# Altium footprint library PcbLib.PcbLib: 65 footprints (part 5 of 5)
Each footprint in its own frame and in the unit in brackets; x right, y up, seen from the top. Pads: shape width x height; smd on the part's side, far side on the other; paste and mask are expansions set on the pad; w line width, h text height; cw(c..) or ccw(c..) is an arc to the next point about the centre after c.
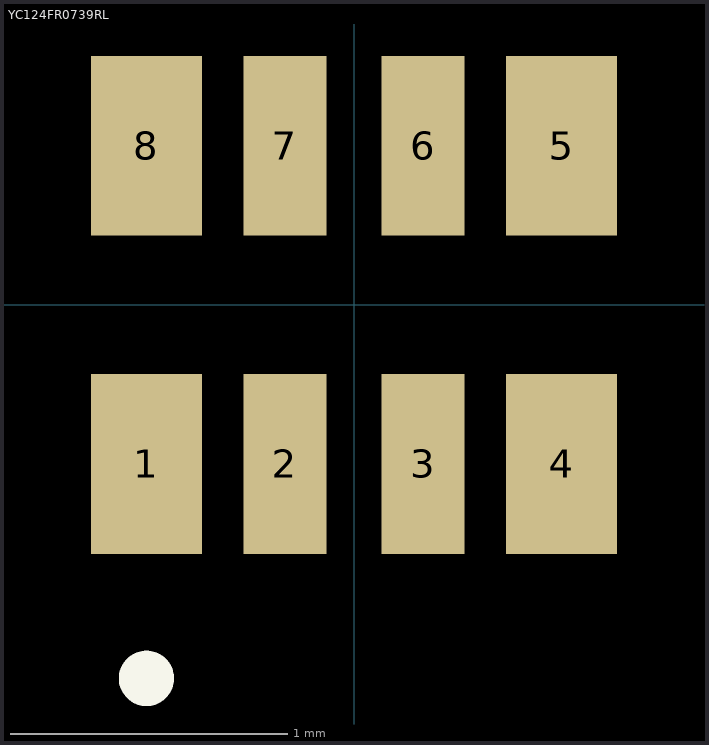
[diagram p4: the footprint, top view; thin cyan lines are the x and y axes]

## YC124FR0739RL [mm]
pads (8):
  rect 0.4x0.65 smd: 1(-0.75,-0.575) 4(0.75,-0.575) 5(0.75,0.575) 8(-0.75,0.575)
  rect 0.3x0.65 smd: 2(-0.25,-0.575) 3(0.25,-0.575) 6(0.25,0.575) 7(-0.25,0.575)
Top Overlay:
  lines w0.1: -0.75,-1.4 ccw(c-0.75,-1.35) -0.75,-1.3 ccw(c-0.75,-1.35) -0.75,-1.4
3D body "YC124-FR-0739RL.stp": height 0.65, standoff 0, extent -1,-0.87 1,0.87